# EAGLE library part CON_HE10_20P (library IUTV3)
CONNECTOR
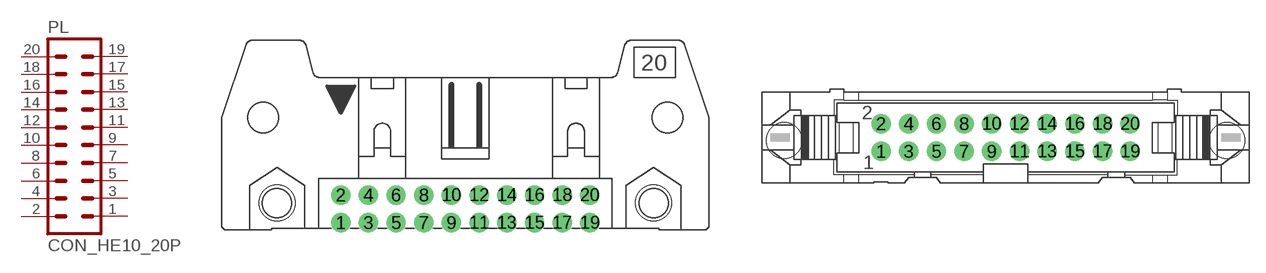
[diagram p45: symbol with the pads of 20H; footprints 20H, 20V]

Designator prefix PL

## CON_HE10_20P (MF: AMPHENOL; MOT_CLES_FARNELL: Connecteur fil-à-carte, embase 20p horizontal a verrouillage 2.54 mm; MOT_CLES_RADIOSPARE: Embases de circuit imprimé, horizontal a verrouillage 20p 2.54 mm; MPN: T816120A1S102CEU; OC_FARNELL: 2217532; OC_RADIOSPARE: 832-3724)  [20H]
1  1  pas
2  2  pas
3  3  pas
4  4  pas
5  5  pas
6  6  pas
7  7  pas
8  8  pas
9  9  pas
10  10  pas
11  11  pas
12  12  pas
13  13  pas
14  14  pas
15  15  pas
16  16  pas
17  17  pas
18  18  pas
19  19  pas
20  20  pas

## CON_HE10_20PV (MF: AMPHENOL; MOT_CLES: Connecteur fil-à-carte, Embase 20p a verrouillage Traversant 2.54 mm; MOT_CLES_RADIOSPARE: Embases de circuit imprimé, a verrouillage 20p 2.54 mm; MPN: T816120A1R101CEU; OC_FARNELL: 2215280; OC_RADIOSPARE: 832-3550)  [20V]
Pads as for 20H

## CON_HE10_20PT (MF: HARWIN; MOT_CLES_FARNELL: Connecteur fil-à-carte,Embase 20p 2.54 mm; MOT_CLES_RADIOSPARE: Embases de circuit imprimé, Vertical Traversant 20p 2.54 mm; MPN: M20-9981046; OC_FARNELL: 1580053; OC_RADIOSPARE: 681-2963)  [MA10-2]
Pads as for 20H

## CON_HE10_20PR (MF: AMPHENOL; MOT_CLES_FARNELL: Connecteur fil-à-carte, Vertical Traversant Embase 20p 2.54 mm; MOT_CLES_RADIOSPARE: Embases de circuit imprimé Vertical Traversant 20p 2.54 mm; MPN: T821120A1S100CEU; OC_FARNELL: 2215309; OC_RADIOSPARE: 827-3587)  [ML20]
Pads as for 20H

## CON_HE10_20PE (MF: AMPHENOL; MOT_CLES_FARNELL: Connecteur fil-à-carte, Horizontal Traversant Embase 20p 2.54 mm; MOT_CLES_RADIOSPARE: Embases de circuit imprimé Vertical Traversant 20p 2.54 mm; MPN: T821120A1R100CEU; OC_FARNELL: 8396027; OC_RADIOSPARE: 8832-3519)  [ML20L]
Pads as for 20H

## Footprint 20H (pad centres in mm)
CONNECTOR
drill 1 pad 1.778: 1 -11.43,-1.27; 2 -11.43,1.27; 3 -8.89,-1.27; 4 -8.89,1.27; 5 -6.35,-1.27; 6 -6.35,1.27; 7 -3.81,-1.27; 8 -3.81,1.27; 9 -1.27,-1.27; 10 -1.27,1.27; 11 1.27,-1.27; 12 1.27,1.27; 13 3.81,-1.27; 14 3.81,1.27; 15 6.35,-1.27; 16 6.35,1.27; 17 8.89,-1.27; 18 8.89,1.27; 19 11.43,-1.27; 20 11.43,1.27
hole 3.302 at -17.272,0.533
hole 3.302 at 17.272,0.533

## Footprint 20V (pad centres in mm)
CONNECTOR
drill 1 pad 1.778: 1 -11.43,-1.27; 2 -11.43,1.27; 3 -8.89,-1.27; 4 -8.89,1.27; 5 -6.35,-1.27; 6 -6.35,1.27; 7 -3.81,-1.27; 8 -3.81,1.27; 9 -1.27,-1.27; 10 -1.27,1.27; 11 1.27,-1.27; 12 1.27,1.27; 13 3.81,-1.27; 14 3.81,1.27; 15 6.35,-1.27; 16 6.35,1.27; 17 8.89,-1.27; 18 8.89,1.27; 19 11.43,-1.27; 20 11.43,1.27
hole 3.302 at 20.32,-0.254
hole 3.302 at -20.32,-0.254

## Footprint MA10-2 (pad centres in mm)
PIN HEADER
drill 1 pad 1.778: 1 -11.43,-1.27; 2 -11.43,1.27; 3 -8.89,-1.27; 4 -8.89,1.27; 5 -6.35,-1.27; 6 -6.35,1.27; 7 -3.81,-1.27; 8 -3.81,1.27; 9 -1.27,-1.27; 10 -1.27,1.27; 11 1.27,-1.27; 12 1.27,1.27; 13 3.81,-1.27; 14 3.81,1.27; 15 6.35,-1.27; 16 6.35,1.27; 17 8.89,-1.27; 18 8.89,1.27; 19 11.43,-1.27; 20 11.43,1.27

## Footprint ML20 (pad centres in mm)
HARTING
drill 1 pad 1.778: 1 -11.43,-1.27; 2 -11.43,1.27; 3 -8.89,-1.27; 4 -8.89,1.27; 5 -6.35,-1.27; 6 -6.35,1.27; 7 -3.81,-1.27; 8 -3.81,1.27; 9 -1.27,-1.27; 10 -1.27,1.27; 11 1.27,-1.27; 12 1.27,1.27; 13 3.81,-1.27; 14 3.81,1.27; 15 6.35,-1.27; 16 6.35,1.27; 17 8.89,-1.27; 18 8.89,1.27; 19 11.43,-1.27; 20 11.43,1.27

## Footprint ML20L (pad centres in mm)
HARTING
drill 1 pad 1.778: 1 -11.43,-1.27; 2 -11.43,1.27; 3 -8.89,-1.27; 4 -8.89,1.27; 5 -6.35,-1.27; 6 -6.35,1.27; 7 -3.81,-1.27; 8 -3.81,1.27; 9 -1.27,-1.27; 10 -1.27,1.27; 11 1.27,-1.27; 12 1.27,1.27; 13 3.81,-1.27; 14 3.81,1.27; 15 6.35,-1.27; 16 6.35,1.27; 17 8.89,-1.27; 18 8.89,1.27; 19 11.43,-1.27; 20 11.43,1.27